# Altium footprint library PCB - CAPACITOR - ALUMINIUM - CAP ALSMD ELEC 18MM H21MM.pcblib: 1 footprints
Each footprint in its own frame and in the unit in brackets; x right, y up, seen from the top. Pads: shape width x height; smd on the part's side, far side on the other; paste and mask are expansions set on the pad; w line width, h text height; cw(c..) or ccw(c..) is an arc to the next point about the centre after c.
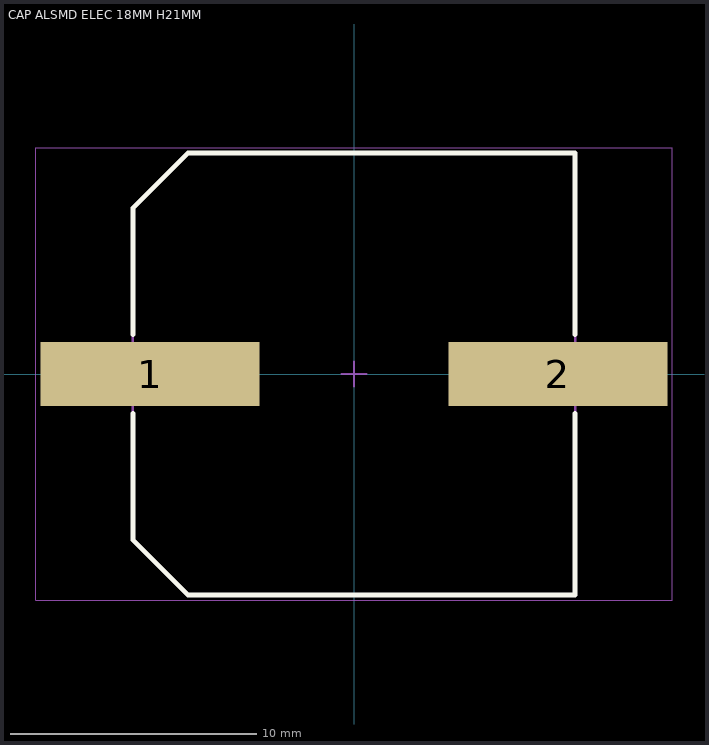
[diagram p0: the footprint, top view; thin cyan lines are the x and y axes]

## CAP ALSMD ELEC 18MM H21MM [mm] "Aluminum SMD Electrolytic Capacitor, 18.00mm Land Size, 18.00mm Diameter, 21.00mm Height, 21.00mm Maximum Leads Span"
height 1.3
pads (2):
  rect 8.9x2.6 smd: 1(-8.3,0) 2(8.3,0)
Top Overlay:
  lines w0.2: -9,-1.6 -9,-6.75 -6.75,-9 9,-9 9,-1.6 ; -9,1.6 -9,6.75 -6.75,9 9,9 9,1.6
Mechanical 13:
  lines w0.1: -9,-6.75 -9,6.75 -6.75,9 9,9 9,-9 -6.75,-9 -9,-6.75
Mechanical 15:
  lines w0.05: -12.95,-9.2 -12.95,9.2 12.95,9.2 12.95,-9.2 -12.95,-9.2
  lines w0.1: -0.5,0 0.5,0 ; 0,-0.5 0,0.5
3D body: height 21, standoff 0, extent -10.5,-9 10.5,9